# Altium footprint library BLDC_Motor_Driver.PcbLib: 122 footprints (part 1 of 8)
Each footprint in its own frame and in the unit in brackets; x right, y up, seen from the top. Pads: shape width x height; smd on the part's side, far side on the other; paste and mask are expansions set on the pad; w line width, h text height; cw(c..) or ccw(c..) is an arc to the next point about the centre after c.
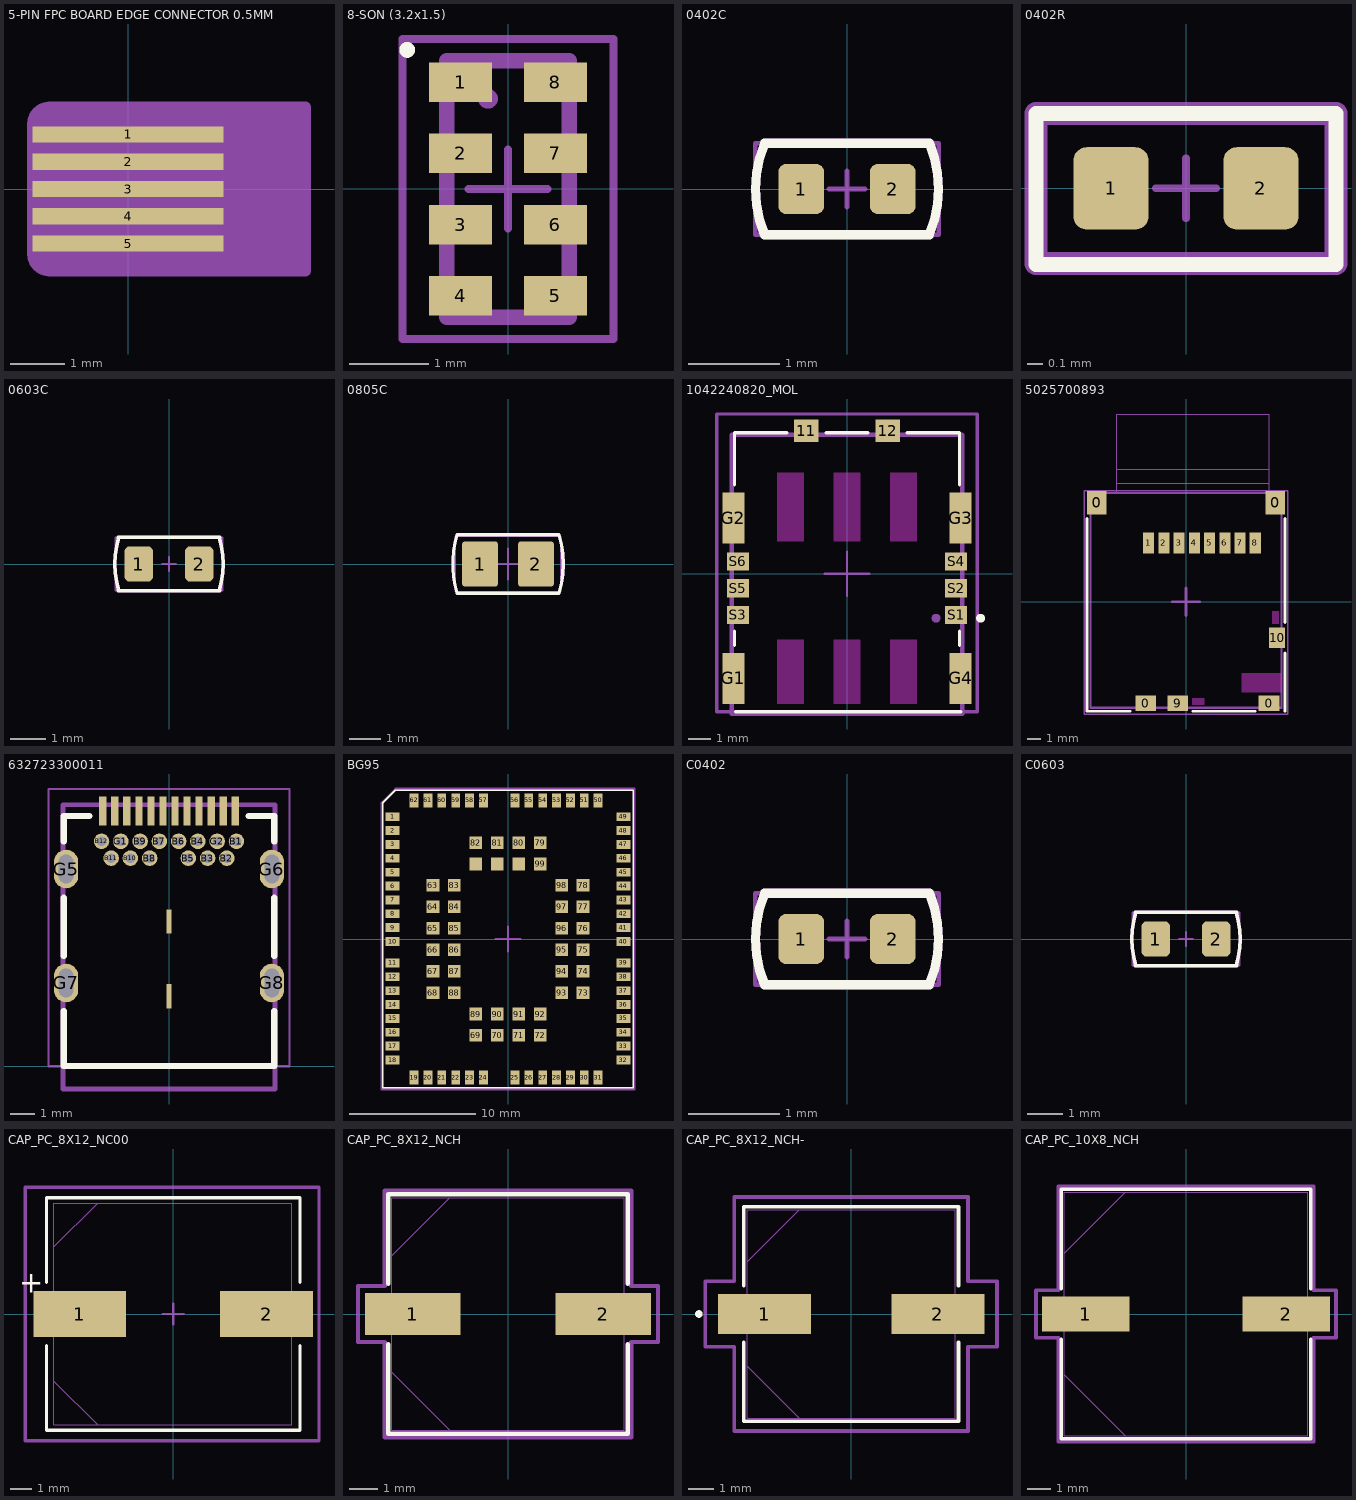
[diagram p0: the footprints below, top view; thin cyan lines are the x and y axes]

## 5-PIN FPC BOARD EDGE CONNECTOR 0.5MM [mm] "5 Position FFC, FPC Connector Contacts, Top 0.020\" (0.50mm)"
pads (5):
  rect 3.5x0.3 smd paste+0 mask+0: 1(0,1) 2(0,0.5) 3(0,0) 4(0,-0.5) 5(0,-1)
Top Solder:
  region: 1.75,1.5 1.75,-1.5 -1.45,-1.5 -1.51,-1.5 -1.62,-1.454 -1.704,-1.37 -1.75,-1.26 -1.75,-1.2 -1.75,1.2 -1.75,1.26 -1.704,1.37 -1.62,1.454 -1.51,1.5 -1.45,1.5
PCB Mech BOT:
  region: 3.25,1.5 3.25,-1.5 -1.45,-1.5 -1.51,-1.5 -1.62,-1.454 -1.704,-1.37 -1.75,-1.26 -1.75,-1.2 -1.75,1.2 -1.75,1.26 -1.704,1.37 -1.62,1.454 -1.51,1.5 -1.45,1.5
  lines w0.2: -1.75,-1.2 ccw(c-1.45,-1.2) -1.45,-1.5 3.25,-1.5 3.25,1.5 -1.45,1.5 ccw(c-1.45,1.2) -1.75,1.2 -1.75,-1.2
TOP ASSY:
  text "'.Designator'" at -0.4,-0.2 h0.5

## 8-SON (3.2x1.5) [mm] "8-WCDFN"
height 0.8
pads (8):
  rect 0.8x0.5 smd: 1(-0.6,1.35) 2(-0.6,0.45) 3(-0.6,-0.45) 4(-0.6,-1.35) 5(0.6,-1.35) 6(0.6,-0.45) 7(0.6,0.45) 8(0.6,1.35)
Top Overlay:
  circle w0.1: c-1.277,1.762 r0.05
TOP ASSY:
  circle w0.15: c-0.254,1.143 r0.05
  lines w0.2: -0.775,-1.625 -0.775,1.625 0.775,1.625 0.775,-1.625 -0.775,-1.625
  text "'.Designator'" at -0.508,-0.381 h0.5
Courtyard TOP:
  lines w0.1: -0.5,0 0.5,0 ; 0,-0.5 0,0.5 ; -1.335,-1.9 -1.335,1.9 1.335,1.9 1.335,-1.9 -1.335,-1.9
3D body "SON90P150X80_HS-9N.step": height 0.8, standoff 0, extent -0.775,-1.625 0.775,1.625

## 0402C [mm]
pads (2):
  rrect35% 0.5x0.55 smd: 1(-0.5,0) 2(0.5,0)
Top Overlay:
  lines w0.1: -0.901,-0.501 cw(c0.319,-0.004) -0.898,0.5 ; -0.9,-0.5 0.9,-0.5 ; -0.9,0.5 0.9,0.5 ; 0.898,-0.5 ccw(c-0.319,0.004) 0.901,0.501
TOP ASSY:
  lines w0.1: -0.901,-0.501 cw(c0.319,-0.004) -0.898,0.5 ; -0.9,-0.5 0.9,-0.5 ; -0.9,0.5 0.9,0.5 ; 0.898,-0.5 ccw(c-0.319,0.004) 0.901,0.501
  text ".Designator" at -0.8,-0.2 h0.5
Courtyard TOP:
  lines w0.05: -1,-0.5 1,-0.5 1,0.5 -1,0.5 -1,-0.5
  lines w0.051: -0.2,0 0.2,0 ; 0,-0.2 0,0.2
3D body "C0402C104Z4VACTU.step": height 0.55, standoff 0, extent -0.525,-0.275 0.525,0.275

## 0402R [mm]
pads (2):
  rrect35% 0.5x0.55 smd: 1(-0.5,0) 2(0.5,0)
Top Overlay:
  lines w0.1: -1,-0.508 1,-0.508 1,0.5 -1,0.5 -1,-0.508
TOP ASSY:
  lines w0.152: -1,-0.5 -1,0.5 1,0.5 1,-0.5 -1,-0.5
  text ".Designator" at -0.9,0.8 h0.5
Courtyard TOP:
  lines w0.05: -1,-0.5 1,-0.5 1,0.5 -1,0.5 -1,-0.5
  lines w0.051: -0.2,0 0.2,0 ; 0,-0.2 0,0.2
3D body "RC0402N.step": height 0.71, standoff 0, extent -0.533,-0.254 0.533,0.254

## 0603C [mm]
pads (2):
  rrect35% 0.8x0.991 smd: 1(-0.85,0) 2(0.85,0)
Top Overlay:
  lines w0.1: -1.416,-0.75 cw(c1.346,0) -1.416,0.75 1.416,0.75 cw(c-1.346,0) 1.416,-0.75 -1.416,-0.75
Mechanical 4:
  lines w0.1: -1.416,-0.75 cw(c1.346,0) -1.416,0.75 1.416,0.75 cw(c-1.346,0) 1.416,-0.75 -1.416,-0.75
TOP ASSY:
  lines w0.1: -1.416,-0.75 cw(c1.346,0) -1.416,0.75 1.416,0.75 cw(c-1.346,0) 1.416,-0.75 -1.416,-0.75
  text ".Designator" at -1.1,-0.2 h0.5
Courtyard TOP:
  lines w0.05: -1.5,-0.75 1.5,-0.75 1.5,0.75 -1.5,0.75 -1.5,-0.75
  lines w0.051: -0.2,0 0.2,0 ; 0,-0.2 0,0.2
3D body "C0603C103M5RACTU.step": height 0.87, standoff 0, extent -0.875,-0.475 0.875,0.475

## 0805C [mm]
pads (2):
  rrect15% 1.15x1.45 smd: 1(-0.9,0) 2(0.9,0)
Top Overlay:
  lines w0.1: -1.64,-0.94 1.64,-0.94 ; -1.64,-0.938 cw(c1.524,0) -1.638,0.945 ; -1.638,0.94 1.64,0.94 ; 1.64,-0.938 ccw(c-1.524,0) 1.64,0.937
TOP ASSY:
  lines w0.1: -1.64,-0.94 1.64,-0.94 ; -1.64,-0.938 cw(c1.524,0) -1.638,0.945 ; -1.638,0.94 1.64,0.94 ; 1.64,-0.938 ccw(c-1.524,0) 1.64,0.937
  text ".Designator" at -1,-0.2 h0.5
Courtyard TOP:
  lines w0.05: -0.5,0 0.5,0 ; 0,-0.5 0,0.5
  lines w0.051: -1.7,-0.889 1.7,-0.889 1.7,0.889 -1.7,0.889 -1.7,-0.889
3D body "C0805C101JAGACTU.step": height 0.88, standoff 0, extent -1.1,-0.725 1.1,0.725

## 1042240820_MOL [mm]
pads (12):
  rect 1.1x1 smd: 11(-1.82,6.425) 12(1.82,6.425)
  rect 1x2.3 smd: G1(-5.1,-4.7) G2(-5.1,2.5) G3(5.1,2.5) G4(5.1,-4.7)
  rect 1x0.8 smd paste+0: S1(4.9,-1.85)
  rect 1x0.813 smd paste+0: S2(4.9,-0.65) S3(-4.9,-1.85) S4(4.9,0.55) S5(-4.9,-0.65) S6(-4.9,0.55)
Top Layer keep-out:
  rectangle: -3.14,1.45 -1.94,4.55
  rectangle: 1.94,1.45 3.14,4.55
  rectangle: -0.6,1.45 0.6,4.55
  rectangle: -3.14,-5.85 -1.94,-2.95
  rectangle: 1.94,-5.85 3.14,-2.95
  rectangle: -0.6,-5.85 0.6,-2.95
Top Overlay:
  circle w0.2: c6,-1.998 r0.1
  lines w0.152: -5.055,-3.212 -5.055,-2.589 ; -5.055,3.988 -5.055,6.327 -2.699,6.327 ; -5,-6.2 5.109,-6.2 ; -0.941,6.327 0.941,6.327 ; 2.699,6.327 5.055,6.327 5.055,3.988 ; 5.055,-3.212 5.055,-2.589
TOP ASSY:
  circle w0.2: c4,-1.998 r0.1
  lines w0.2: -5.175,-6.3 -5.175,6.25 5.175,6.25 5.175,-6.3 -5.175,-6.3
Courtyard TOP:
  lines w0.1: -1,0 1,0 ; 0,-1 0,1
  lines w0.152: -5.849,-6.2 5.849,-6.2 5.849,7.174 -5.849,7.174 -5.849,-6.2
3D body "1042240820.stp": height 1.03, standoff -0.08, extent -5.175,-6.3 5.175,6.25

## 5025700893 [mm] "Card Connector Secure Digital - microSD™ Surface Mount, Right Angle Gold 10 (8 + 2) Position"
height 5.2
pads (14):
  rect 1.4x1.7 smd: 0(-6.45,7.15) 0(6.45,7.15)
  rect 1.5x1.15 smd: 0(-2.9,-7.325) 0(6,-7.325) 9(-0.6,-7.325)
  rect 0.8x1.5 smd: 1(-2.7,4.25) 2(-1.6,4.25) 3(-0.5,4.25) 4(0.6,4.25) 5(1.7,4.25) 6(2.8,4.25) 7(3.9,4.25) 8(5,4.25)
  rect 1.15x1.5 smd: 10(6.575,-2.6)
Top Layer keep-out:
  rectangle: 0.45,-7.45 1.35,-6.95
  rectangle: 4,-6.55 6.9,-5.15
  rectangle: 6.2,-1.6 6.7,-0.65
Top Overlay:
  lines w0.2: -7.15,6 -7.15,-7.9 -4.025,-7.9 ; 0.5,-7.9 4.975,-7.9 ; 7.15,-7.9 7.15,-3.7 ; 7.15,-1.5 7.15,6
TOP ASSY:
  lines w0.05: -5,7.85 -5,13.55 6,13.55 6,7.85 ; -5,8.55 6,8.55 ; -5,9.55 6,9.55
  lines w0.152: -6.9,-7.65 -6.9,7.85 6.9,7.85 6.9,-7.65 -6.9,-7.65
  text "8" at 4.8,5.4 h1
  text "1" at -2.9,5.4 h1
Courtyard TOP:
  lines w0.1: -7.35,-8.1 -7.35,8 7.35,8 7.35,-8.1 -7.35,-8.1
  lines w0.2: -1,0 1,0 ; 0,-1 0,1
3D body "5025700893.stp": height 1.8, standoff 0, extent -6.9,-7.65 6.9,7.85

## 632723300011 [mm] "CONN RCP USB3.1 TYPEC 24P SMD RA"
height 2.972
pads (32):
  rect 0.3x1.2 smd mask+0.05: A1(-2.75,10.58) A2(-2.25,10.58) A3(-1.75,10.58) A4(-1.25,10.58) A5(-0.75,10.58) A6(-0.25,10.58) A7(0.25,10.58) A8(0.75,10.58) A9(1.25,10.58) A10(1.75,10.58) A11(2.25,10.58) A12(2.75,10.58)
  round 0.645 hole 0.4 mask+0: B1(2.8,9.33) B2(2.4,8.63) B3(1.6,8.63) B4(1.2,9.33) B5(0.8,8.63) B6(0.4,9.33) B7(-0.4,9.33) B8(-0.8,8.63) B9(-1.2,9.33) B10(-1.6,8.63) B11(-2.4,8.63) B12(-2.8,9.33) G1(-2,9.33) G2(2,9.33)
  rect 0.2x1 smd: G3(0,6) G4(0,2.9)
  oval 1x1.6 hole 0.6 slot 1.2 at 90 deg: G5(-4.27,8.18) G6(4.27,8.18) G7(-4.27,3.45) G8(4.27,3.45)
Top Overlay:
  lines w0.254: -4.37,2.286 -4.37,0 4.37,0 4.37,2.286 ; -4.37,4.572 -4.37,6.985 ; -4.37,9.323 -4.37,10.38 -3.302,10.38 ; 3.302,10.38 4.37,10.38 4.37,9.323 ; 4.37,4.572 4.37,6.985
TOP ASSY:
  lines w0.2: -4.4,-0.95 4.4,-0.95 4.4,10.844 -4.4,10.844 -4.4,-0.95
  text "'.Designator'" at -2.5,4.5 h0.5
Courtyard TOP:
  lines w0.1: -5,0 -5,11.5 5,11.5 5,0 -5,0
3D body "Conn-USB_C-Recept-H-Wurth_632723x00011.stp": height 2.97, standoff -1.89, extent -4.37,-0.95 4.37,10.844

## BG95 [mm]
height 2.2
pads (102):
  rect 1.1x0.7 smd mask+0.05: 1(-9.15,9.7) 2(-9.15,8.6) 3(-9.15,7.5) 4(-9.15,6.4) 5(-9.15,5.3) 6(-9.15,4.2) 7(-9.15,3.1) 8(-9.15,2) 9(-9.15,0.9) 10(-9.15,-0.2) 11(-9.15,-1.9) 12(-9.15,-3) 13(-9.15,-4.1) 14(-9.15,-5.2) 15(-9.15,-6.3) 16(-9.15,-7.4) 17(-9.15,-8.5) 18(-9.15,-9.6) 32(9.15,-9.6) 33(9.15,-8.5) 34(9.15,-7.4) 35(9.15,-6.3) 36(9.15,-5.2) 37(9.15,-4.1) 38(9.15,-3) 39(9.15,-1.9) 40(9.15,-0.2) 41(9.15,0.9) 42(9.15,2) 43(9.15,3.1) 44(9.15,4.2) 45(9.15,5.3) 46(9.15,6.4) 47(9.15,7.5) 48(9.15,8.6) 49(9.15,9.7)
  rect 0.7x1.1 smd mask+0.05: 19(-7.45,-11) 20(-6.35,-11) 21(-5.25,-11) 22(-4.15,-11) 23(-3.05,-11) 24(-1.95,-11) 25(0.55,-11) 26(1.65,-11) 27(2.75,-11) 28(3.85,-11) 29(4.95,-11) 30(6.05,-11) 31(7.15,-11) 50(7.15,11) 51(6.05,11) 52(4.95,11) 53(3.85,11) 54(2.75,11) 55(1.65,11) 56(0.55,11) 57(-1.95,11) 58(-3.05,11) 59(-4.15,11) 60(-5.25,11) 61(-6.35,11) 62(-7.45,11)
  rect 1x1 smd mask+0.05: 63(-5.95,4.25) 64(-5.95,2.55) 65(-5.95,0.85) 66(-5.95,-0.85) 67(-5.95,-2.55) 68(-5.95,-4.25) 69(-2.55,-7.65) 70(-0.85,-7.65) 71(0.85,-7.65) 72(2.55,-7.65) 73(5.95,-4.25) 74(5.95,-2.55) 75(5.95,-0.85) 76(5.95,0.85) 77(5.95,2.55) 78(5.95,4.25) 79(2.55,7.65) 80(0.85,7.65) 81(-0.85,7.65) 82(-2.55,7.65) 83(-4.25,4.25) 84(-4.25,2.55) 85(-4.25,0.85) 86(-4.25,-0.85) 87(-4.25,-2.55) 88(-4.25,-4.25) 89(-2.55,-5.95) 90(-0.85,-5.95) 91(0.85,-5.95) 92(2.55,-5.95) 93(4.25,-4.25) 94(4.25,-2.55) 95(4.25,-0.85) 96(4.25,0.85) 97(4.25,2.55) 98(4.25,4.25) 99(2.55,5.95) 100(0.85,5.95) 101(-0.85,5.95) 102(-2.55,5.95)
Top Overlay:
  lines w0.1: -9.95,-11.8 9.95,-11.8 9.95,11.8 -8.95,11.8 -9.95,10.8 -9.95,-11.8
TOP ASSY:
  lines w0.2: -10,-11.9 10,-11.9 10,11.9 -8.9,11.9 -10,10.8 -10,-11.9
  text "'.Designator'" at -1,0 h0.5
Courtyard TOP:
  lines w0.152: -1,0 1,0 ; 0,-1 0,1
3D body "LGA81C170P9X9_1990X2360X240.step": height 2.4, standoff 0, extent -10.025,-11.875 10.025,11.875

## C0402 [mm]
pads (2):
  rrect35% 0.5x0.55 smd: 1(-0.5,0) 2(0.5,0)
Top Overlay:
  lines w0.1: -0.901,-0.501 cw(c0.319,-0.004) -0.898,0.5 ; -0.9,-0.5 0.9,-0.5 ; -0.9,0.5 0.9,0.5 ; 0.898,-0.5 ccw(c-0.319,0.004) 0.901,0.501
TOP ASSY:
  lines w0.1: -0.901,-0.501 cw(c0.319,-0.004) -0.898,0.5 ; -0.9,-0.5 0.9,-0.5 ; -0.9,0.5 0.9,0.5 ; 0.898,-0.5 ccw(c-0.319,0.004) 0.901,0.501
  text ".Designator" at -0.8,-0.2 h0.5
Courtyard TOP:
  lines w0.05: -1,-0.5 -1,0.5 1,0.5 1,-0.5 -1,-0.5
  lines w0.051: -0.2,0 0.2,0 ; 0,-0.2 0,0.2
3D body "C0402C104Z4VACTU.step": height 0.55, standoff 0, extent -0.525,-0.275 0.525,0.275

## C0603 [mm]
pads (2):
  rrect35% 0.8x0.991 smd: 1(-0.85,0) 2(0.85,0)
Top Overlay:
  lines w0.1: -1.416,-0.75 cw(c1.346,0) -1.416,0.75 1.416,0.75 cw(c-1.346,0) 1.416,-0.75 -1.416,-0.75
Mechanical 4:
  lines w0.1: -1.416,-0.75 cw(c1.346,0) -1.416,0.75 1.416,0.75 cw(c-1.346,0) 1.416,-0.75 -1.416,-0.75
TOP ASSY:
  lines w0.1: -1.416,-0.75 cw(c1.346,0) -1.416,0.75 1.416,0.75 cw(c-1.346,0) 1.416,-0.75 -1.416,-0.75
  text ".Designator" at -1.1,-0.2 h0.5
Courtyard TOP:
  lines w0.05: -1.5,-0.75 -1.5,0.75 1.5,0.75 1.5,-0.75 -1.5,-0.75
  lines w0.051: -0.2,0 0.2,0 ; 0,-0.2 0,0.2
3D body "C0603C103M5RACTU.step": height 0.87, standoff 0, extent -0.875,-0.475 0.875,0.475

## CAP_PC_8X12_NC00 [mm]
pads (2):
  rect 4.4x2.2 smd paste+0 mask+0: 1(-4.425,0) 2(4.425,0)
Top Overlay:
  lines w0.152: -6,-1.5 -6,-5.5 6,-5.5 6,-1.5 ; -6,1.5 -6,5.5 6,5.5 6,1.5
  text "+" at -7.3,1 h1
3D Body TOP:
  lines w0.025: -5.652,-3.177 -3.577,-5.252 ; -5.652,3.177 -3.577,5.252 ; -5.65,-5.25 -5.65,5.25 5.6,5.25 5.6,-5.25 -5.65,-5.25
Courtyard TOP:
  lines w0.1: -0.5,0 0.5,0 ; 0,-0.5 0,0.5
  lines w0.152: -7,-6 -7,6 6.9,6 6.9,-6 -7,-6
3D body "A765MU227M1ELAE050.step": height 13, standoff 0.1, extent -5.62,-5.25 5.62,5.25

## CAP_PC_8X12_NCH [mil]
pads (2):
  rect 134x59 smd paste+0 mask+0: 1(-134,0) 2(134,0)
Top Overlay:
  lines w6: -168.5,-42.6 -168.5,-168.5 168.5,-168.5 168.5,-42.6 ; -168.5,42.6 -168.5,168.5 168.5,168.5 168.5,42.6
3D Body TOP:
  lines w1: -163.5,-81.75 -81.75,-163.5 ; -163.5,81.75 -81.75,163.5 ; -163.5,-163.5 163.5,-163.5 163.5,163.5 -163.5,163.5 -163.5,-163.5
Courtyard TOP:
  lines w6: -211,-39.5 -211,39.5 -173.5,39.5 -173.5,173.5 173.5,173.5 173.5,39.5 211,39.5 211,-39.5 173.5,-39.5 173.5,-173.5 -173.5,-173.5 -173.5,-39.5 -211,-39.5

## CAP_PC_8X12_NCH- [mil]
pads (2):
  rect 146x63 smd paste+0 mask+0: 1(-136,0) 2(136,0)
Top Overlay:
  circle w6: c-239,0 r3
  lines w6: -168.5,-44.6 -168.5,-168.5 168.5,-168.5 168.5,-44.6 ; -168.5,44.6 -168.5,168.5 168.5,168.5 168.5,44.6
3D Body TOP:
  lines w1: -163.5,-81.75 -81.75,-163.5 ; -163.5,81.75 -81.75,163.5 ; -163.5,-163.5 163.5,-163.5 163.5,163.5 -163.5,163.5 -163.5,-163.5
Courtyard TOP:
  lines w6: -229,-51.5 -229,51.5 -183.5,51.5 -183.5,183.5 183.5,183.5 183.5,51.5 229,51.5 229,-51.5 183.5,-51.5 183.5,-183.5 -183.5,-183.5 -183.5,-51.5 -229,-51.5

## CAP_PC_10X8_NCH [mil]
pads (2):
  rect 146x59 smd paste+0 mask+0: 1(-167.5,0) 2(167.5,0)
Top Overlay:
  lines w6: -208,-42.6 -208,-208 208,-208 208,-42.6 ; -208,42.6 -208,208 208,208 208,42.6
3D Body TOP:
  lines w1: -203,-101.5 -101.5,-203 ; -203,101.5 -101.5,203 ; -203,-203 -203,203 203,203 203,-203 -203,-203
Courtyard TOP:
  lines w6: -250.5,-39.5 -213,-39.5 -213,-213 213,-213 213,-39.5 250.5,-39.5 250.5,39.5 213,39.5 213,213 -213,213 -213,39.5 -250.5,39.5 -250.5,-39.5